# Altium schematic symbol library F.SchLib: 3 symbols
Pins are listed as number, name and electrical type; pins without a type are passive.

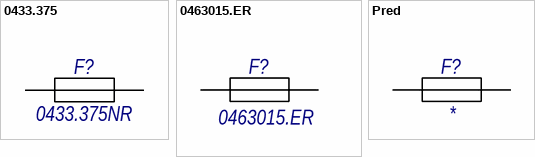
[diagram p0: symbols 0433.375 to Pred]

## 0433.375
designator F?, comment PartNumber: 0433.375NR  (hidden comment: Предохранитель 0433.375NR фирма "Littelfuse")
SMD Fuses, 375 мА, 125 VAC; Value: 375 мА; GOST: Предохранитель 0433.375NR фирма "Littelfuse"
pins: 1 2, 2 1

## 0463015.ER
designator F?
SMD Fuses, 15 А, 250 VAC, 125 VDC; Value: 15 А; GOST: Предохранитель 0463015.ER фирма "Littelfuse"; PartNumber: 0463015.ER
pins: 1 2, 2 1

## Pred
designator F?
Fuses; Value: *; PartNumber: *; GOST: *
pins: 1 2, 2 1